# Altium footprint library Res_BI_Technologies_P0915N-FC15BR100K_eec_MFG.PcbLib: 1 footprints
Each footprint in its own frame and in the unit in brackets; x right, y up, seen from the top. Pads: shape width x height; smd on the part's side, far side on the other; paste and mask are expansions set on the pad; w line width, h text height; cw(c..) or ccw(c..) is an arc to the next point about the centre after c.
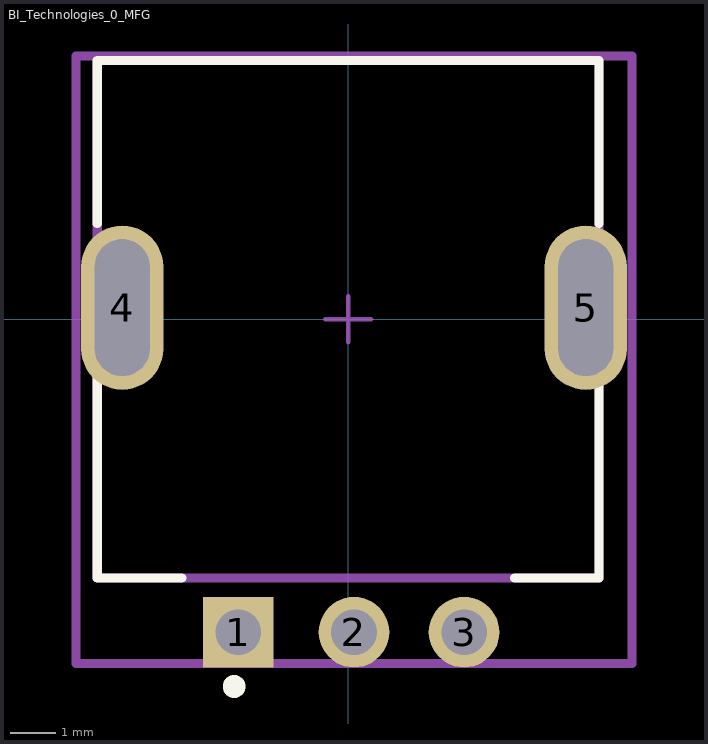
[diagram p0: the footprint, top view; thin cyan lines are the x and y axes]

## BI_Technologies_0_MFG [mm]
pads (5):
  rect 1.55x1.55 hole 1 paste-2539.97 mask+0: 1(-2.413,-6.858)
  round 1.55 hole 1 paste-2539.97 mask+0: 2(0.127,-6.858) 3(2.54,-6.858)
  rrect100% 1.8x3.6 hole 1.2 slot 3 at 90 deg paste-2539.97 mask+0: 4(-4.953,0.254) 5(5.207,0.254)
Top Overlay:
  circle w0.25: c-2.5,-8.05 r0.125
  lines w0.2: -5.5,-0.45 -5.5,-5.675 -3.65,-5.675 ; -5.5,2.1 -5.5,5.675 5.5,5.675 5.5,2.1 ; 3.65,-5.675 5.5,-5.675 5.5,-0.45
Mechanical 10:
  lines w0.2: -5.969,-7.55 -5.969,5.775 6.223,5.775 6.223,-7.55 -5.969,-7.55
  text ".Designator" at 0,-0.888 h1
Mechanical 12:
  lines w0.2: -5.5,-5.675 -5.5,5.675 5.5,5.675 5.5,-5.675 -5.5,-5.675
Mechanical 15:
  lines w0.1: -0.5,0 0.5,0 ; 0,-0.5 0,0.5
  lines w0.2: -5.969,-7.55 -5.969,5.775 6.223,5.775 6.223,-7.55 -5.969,-7.55
3D body "Res_Bourns_PTV09A-4020F-A504_eec.STEP": height 0.25, standoff 0, extent -5.573,-7.748 5.827,5.727